# EAGLE library part PCA9306 (library 000_ICS)
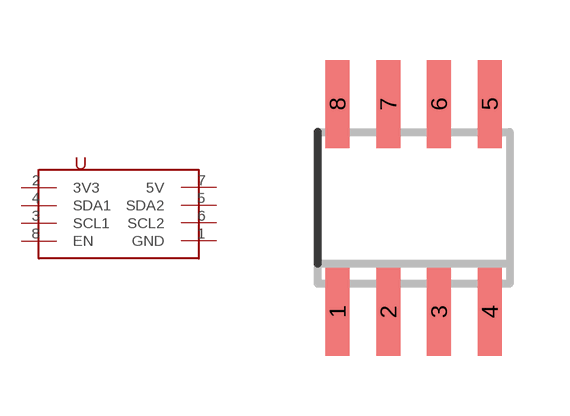
[diagram p9: symbol with the pads of SO-08; footprint SO-08]

Designator prefix U

## PCA9306  [SO-08]
1  GND
2  3V3
3  SCL1
4  SDA1
5  SDA2
6  SCL2
7  5V
8  EN

## Footprint SO-08 (pad centres in mm)
Small Outline Narrow Plastic Gull Wing 150-mil body, package type SN
smd 0.6 x 2.2: 1 -1.905,-2.6; 2 -0.635,-2.6; 3 0.635,-2.6; 4 1.905,-2.6; 5 1.905,2.6; 6 0.635,2.6; 7 -0.635,2.6; 8 -1.905,2.6